# Altium footprint library Package_DIP.PcbLib: 281 footprints (part 10 of 18)
Each footprint in its own frame and in the unit in brackets; x right, y up, seen from the top. Pads: shape width x height; smd on the part's side, far side on the other; paste and mask are expansions set on the pad; w line width, h text height; cw(c..) or ccw(c..) is an arc to the next point about the centre after c.
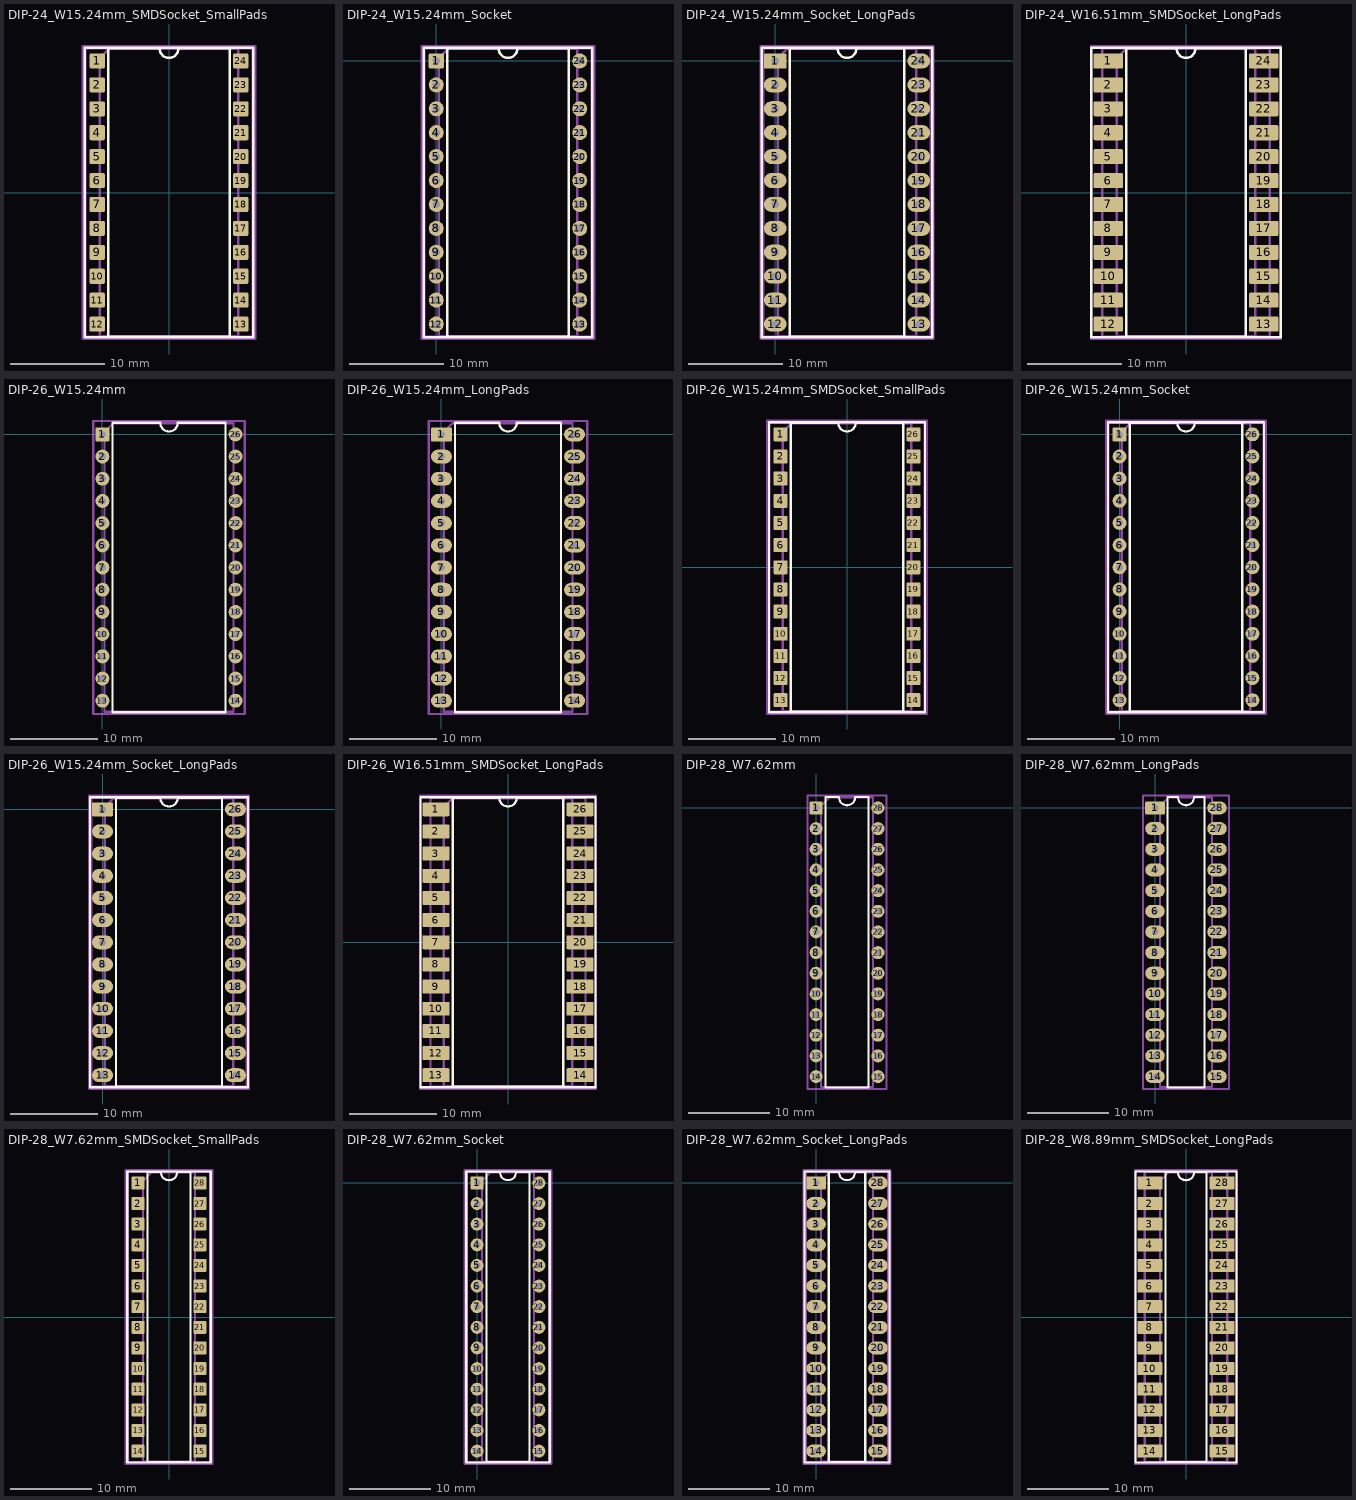
[diagram p9: the footprints below, top view; thin cyan lines are the x and y axes]

## DIP-24_W15.24mm_SMDSocket_SmallPads [mm]
pads (24):
  rrect16% 1.6x1.6 smd: 1(-7.62,13.97) 2(-7.62,11.43) 3(-7.62,8.89) 4(-7.62,6.35) 5(-7.62,3.81) 6(-7.62,1.27) 7(-7.62,-1.27) 8(-7.62,-3.81) 9(-7.62,-6.35) 10(-7.62,-8.89) 11(-7.62,-11.43) 12(-7.62,-13.97) 13(7.62,-13.97) 14(7.62,-11.43) 15(7.62,-8.89) 16(7.62,-6.35) 17(7.62,-3.81) 18(7.62,-1.27) 19(7.62,1.27) 20(7.62,3.81) 21(7.62,6.35) 22(7.62,8.89) 23(7.62,11.43) 24(7.62,13.97)
F.SilkS:
  lines w0.254: -8.95,-15.36 8.95,-15.36 8.95,15.36 -8.95,15.36 -8.95,-15.36 ; -6.46,-15.3 6.46,-15.3 6.46,15.3 1,15.3 cw(c0,15.3) -1,15.3 -6.46,15.3 -6.46,-15.3
Top Assembly:
  lines w0.254: -8.89,-15.3 8.89,-15.3 8.89,15.3 -8.89,15.3 -8.89,-15.3 ; -7.365,-15.24 7.365,-15.24 7.365,15.24 -6.365,15.24 -7.365,14.24 -7.365,-15.24
  text "'.Designator'" at 0.84,-4.047 h1
Top Courtyard:
  lines w0.254: -9.14,-15.55 9.14,-15.55 9.14,15.55 -9.14,15.55 -9.14,-15.55
Top Designator:
  text ".Designator" at -7.618,-0.508 h1.52

## DIP-24_W15.24mm_Socket [mm]
pads (24):
  rrect16% 1.6x1.6 hole 0.8: 1(0,0)
  round 1.6 hole 0.8: 2(0,-2.54) 3(0,-5.08) 4(0,-7.62) 5(0,-10.16) 6(0,-12.7) 7(0,-15.24) 8(0,-17.78) 9(0,-20.32) 10(0,-22.86) 11(0,-25.4) 12(0,-27.94) 13(15.24,-27.94) 14(15.24,-25.4) 15(15.24,-22.86) 16(15.24,-20.32) 17(15.24,-17.78) 18(15.24,-15.24) 19(15.24,-12.7) 20(15.24,-10.16) 21(15.24,-7.62) 22(15.24,-5.08) 23(15.24,-2.54) 24(15.24,0)
F.SilkS:
  lines w0.254: -1.33,-29.33 16.57,-29.33 16.57,1.39 -1.33,1.39 -1.33,-29.33 ; 1.16,-29.27 14.08,-29.27 14.08,1.33 8.62,1.33 cw(c7.62,1.33) 6.62,1.33 1.16,1.33 1.16,-29.27
Top Assembly:
  lines w0.254: -1.27,-29.27 16.51,-29.27 16.51,1.33 -1.27,1.33 -1.27,-29.27 ; 0.255,-29.21 14.985,-29.21 14.985,1.27 1.255,1.27 0.255,0.27 0.255,-29.21
  text "'.Designator'" at 8.46,-18.017 h1
Top Courtyard:
  lines w0.254: -1.53,-29.53 16.77,-29.53 16.77,1.58 -1.53,1.58 -1.53,-29.53
Top Designator:
  text ".Designator" at 0.002,-14.483 h1.52

## DIP-24_W15.24mm_Socket_LongPads [mm]
pads (24):
  rrect16% 2.4x1.6 hole 0.8: 1(0,0)
  rrect100% 2.4x1.6 hole 0.8: 2(0,-2.54) 3(0,-5.08) 4(0,-7.62) 5(0,-10.16) 6(0,-12.7) 7(0,-15.24) 8(0,-17.78) 9(0,-20.32) 10(0,-22.86) 11(0,-25.4) 12(0,-27.94) 13(15.24,-27.94) 14(15.24,-25.4) 15(15.24,-22.86) 16(15.24,-20.32) 17(15.24,-17.78) 18(15.24,-15.24) 19(15.24,-12.7) 20(15.24,-10.16) 21(15.24,-7.62) 22(15.24,-5.08) 23(15.24,-2.54) 24(15.24,0)
F.SilkS:
  lines w0.254: -1.44,-29.33 16.68,-29.33 16.68,1.39 -1.44,1.39 -1.44,-29.33 ; 1.56,-29.27 13.68,-29.27 13.68,1.33 8.62,1.33 cw(c7.62,1.33) 6.62,1.33 1.56,1.33 1.56,-29.27
Top Assembly:
  lines w0.254: -1.27,-29.27 16.51,-29.27 16.51,1.33 -1.27,1.33 -1.27,-29.27 ; 0.255,-29.21 14.985,-29.21 14.985,1.27 1.255,1.27 0.255,0.27 0.255,-29.21
  text "'.Designator'" at 8.46,-18.017 h1
Top Courtyard:
  lines w0.254: -1.53,-29.53 16.77,-29.53 16.77,1.58 -1.53,1.58 -1.53,-29.53
Top Designator:
  text ".Designator" at 0.002,-14.483 h1.52

## DIP-24_W16.51mm_SMDSocket_LongPads [mm]
pads (24):
  rrect16% 3.1x1.6 smd: 1(-8.255,13.97) 2(-8.255,11.43) 3(-8.255,8.89) 4(-8.255,6.35) 5(-8.255,3.81) 6(-8.255,1.27) 7(-8.255,-1.27) 8(-8.255,-3.81) 9(-8.255,-6.35) 10(-8.255,-8.89) 11(-8.255,-11.43) 12(-8.255,-13.97) 13(8.255,-13.97) 14(8.255,-11.43) 15(8.255,-8.89) 16(8.255,-6.35) 17(8.255,-3.81) 18(8.255,-1.27) 19(8.255,1.27) 20(8.255,3.81) 21(8.255,6.35) 22(8.255,8.89) 23(8.255,11.43) 24(8.255,13.97)
F.SilkS:
  lines w0.254: -10.045,-15.36 10.045,-15.36 10.045,15.36 -10.045,15.36 -10.045,-15.36 ; -6.345,-15.3 6.345,-15.3 6.345,15.3 1,15.3 cw(c0,15.3) -1,15.3 -6.345,15.3 -6.345,-15.3
Top Assembly:
  lines w0.254: -8.89,-15.3 8.89,-15.3 8.89,15.3 -8.89,15.3 -8.89,-15.3 ; -7.365,-15.24 7.365,-15.24 7.365,15.24 -6.365,15.24 -7.365,14.24 -7.365,-15.24
  text "'.Designator'" at 0.84,-4.047 h1
Top Courtyard:
  lines w0.254: -10.06,-15.55 10.06,-15.55 10.06,15.55 -10.06,15.55 -10.06,-15.55
Top Designator:
  text ".Designator" at -7.618,-0.508 h1.52

## DIP-26_W15.24mm [mm]
pads (26):
  rrect16% 1.6x1.6 hole 0.8: 1(0,0)
  round 1.6 hole 0.8: 2(0,-2.54) 3(0,-5.08) 4(0,-7.62) 5(0,-10.16) 6(0,-12.7) 7(0,-15.24) 8(0,-17.78) 9(0,-20.32) 10(0,-22.86) 11(0,-25.4) 12(0,-27.94) 13(0,-30.48) 14(15.24,-30.48) 15(15.24,-27.94) 16(15.24,-25.4) 17(15.24,-22.86) 18(15.24,-20.32) 19(15.24,-17.78) 20(15.24,-15.24) 21(15.24,-12.7) 22(15.24,-10.16) 23(15.24,-7.62) 24(15.24,-5.08) 25(15.24,-2.54) 26(15.24,0)
F.SilkS:
  lines w0.254: 1.16,-31.81 14.08,-31.81 14.08,1.33 8.62,1.33 cw(c7.62,1.33) 6.62,1.33 1.16,1.33 1.16,-31.81
Top Assembly:
  lines w0.254: 0.255,-31.75 14.985,-31.75 14.985,1.27 1.255,1.27 0.255,0.27 0.255,-31.75
  text "'.Designator'" at 8.46,-19.287 h1
Top Courtyard:
  lines w0.254: -1.05,-32 16.29,-32 16.29,1.53 -1.05,1.53 -1.05,-32
Top Designator:
  text ".Designator" at 0.002,-15.743 h1.52

## DIP-26_W15.24mm_LongPads [mm]
pads (26):
  rrect16% 2.4x1.6 hole 0.8: 1(0,0)
  rrect100% 2.4x1.6 hole 0.8: 2(0,-2.54) 3(0,-5.08) 4(0,-7.62) 5(0,-10.16) 6(0,-12.7) 7(0,-15.24) 8(0,-17.78) 9(0,-20.32) 10(0,-22.86) 11(0,-25.4) 12(0,-27.94) 13(0,-30.48) 14(15.24,-30.48) 15(15.24,-27.94) 16(15.24,-25.4) 17(15.24,-22.86) 18(15.24,-20.32) 19(15.24,-17.78) 20(15.24,-15.24) 21(15.24,-12.7) 22(15.24,-10.16) 23(15.24,-7.62) 24(15.24,-5.08) 25(15.24,-2.54) 26(15.24,0)
F.SilkS:
  lines w0.254: 1.56,-31.81 13.68,-31.81 13.68,1.33 8.62,1.33 cw(c7.62,1.33) 6.62,1.33 1.56,1.33 1.56,-31.81
Top Assembly:
  lines w0.254: 0.255,-31.75 14.985,-31.75 14.985,1.27 1.255,1.27 0.255,0.27 0.255,-31.75
  text "'.Designator'" at 8.46,-19.287 h1
Top Courtyard:
  lines w0.254: -1.46,-32 16.69,-32 16.69,1.53 -1.46,1.53 -1.46,-32
Top Designator:
  text ".Designator" at -0.003,-15.743 h1.52

## DIP-26_W15.24mm_SMDSocket_SmallPads [mm]
pads (26):
  rrect16% 1.6x1.6 smd: 1(-7.62,15.24) 2(-7.62,12.7) 3(-7.62,10.16) 4(-7.62,7.62) 5(-7.62,5.08) 6(-7.62,2.54) 7(-7.62,0) 8(-7.62,-2.54) 9(-7.62,-5.08) 10(-7.62,-7.62) 11(-7.62,-10.16) 12(-7.62,-12.7) 13(-7.62,-15.24) 14(7.62,-15.24) 15(7.62,-12.7) 16(7.62,-10.16) 17(7.62,-7.62) 18(7.62,-5.08) 19(7.62,-2.54) 20(7.62,0) 21(7.62,2.54) 22(7.62,5.08) 23(7.62,7.62) 24(7.62,10.16) 25(7.62,12.7) 26(7.62,15.24)
F.SilkS:
  lines w0.254: -8.95,-16.63 8.95,-16.63 8.95,16.63 -8.95,16.63 -8.95,-16.63 ; -6.46,-16.57 6.46,-16.57 6.46,16.57 1,16.57 cw(c0,16.57) -1,16.57 -6.46,16.57 -6.46,-16.57
Top Assembly:
  lines w0.254: -8.89,-16.57 8.89,-16.57 8.89,16.57 -8.89,16.57 -8.89,-16.57 ; -7.365,-16.51 7.365,-16.51 7.365,16.51 -6.365,16.51 -7.365,15.51 -7.365,-16.51
  text "'.Designator'" at 0.84,-4.047 h1
Top Courtyard:
  lines w0.254: -9.14,-16.82 9.14,-16.82 9.14,16.82 -9.14,16.82 -9.14,-16.82
Top Designator:
  text ".Designator" at -7.618,-0.508 h1.52

## DIP-26_W15.24mm_Socket [mm]
pads (26):
  rrect16% 1.6x1.6 hole 0.8: 1(0,0)
  round 1.6 hole 0.8: 2(0,-2.54) 3(0,-5.08) 4(0,-7.62) 5(0,-10.16) 6(0,-12.7) 7(0,-15.24) 8(0,-17.78) 9(0,-20.32) 10(0,-22.86) 11(0,-25.4) 12(0,-27.94) 13(0,-30.48) 14(15.24,-30.48) 15(15.24,-27.94) 16(15.24,-25.4) 17(15.24,-22.86) 18(15.24,-20.32) 19(15.24,-17.78) 20(15.24,-15.24) 21(15.24,-12.7) 22(15.24,-10.16) 23(15.24,-7.62) 24(15.24,-5.08) 25(15.24,-2.54) 26(15.24,0)
F.SilkS:
  lines w0.254: -1.33,-31.87 16.57,-31.87 16.57,1.39 -1.33,1.39 -1.33,-31.87 ; 1.16,-31.81 14.08,-31.81 14.08,1.33 8.62,1.33 cw(c7.62,1.33) 6.62,1.33 1.16,1.33 1.16,-31.81
Top Assembly:
  lines w0.254: -1.27,-31.81 16.51,-31.81 16.51,1.33 -1.27,1.33 -1.27,-31.81 ; 0.255,-31.75 14.985,-31.75 14.985,1.27 1.255,1.27 0.255,0.27 0.255,-31.75
  text "'.Designator'" at 8.46,-19.287 h1
Top Courtyard:
  lines w0.254: -1.53,-32.06 16.77,-32.06 16.77,1.58 -1.53,1.58 -1.53,-32.06
Top Designator:
  text ".Designator" at 0.002,-15.748 h1.52

## DIP-26_W15.24mm_Socket_LongPads [mm]
pads (26):
  rrect16% 2.4x1.6 hole 0.8: 1(0,0)
  rrect100% 2.4x1.6 hole 0.8: 2(0,-2.54) 3(0,-5.08) 4(0,-7.62) 5(0,-10.16) 6(0,-12.7) 7(0,-15.24) 8(0,-17.78) 9(0,-20.32) 10(0,-22.86) 11(0,-25.4) 12(0,-27.94) 13(0,-30.48) 14(15.24,-30.48) 15(15.24,-27.94) 16(15.24,-25.4) 17(15.24,-22.86) 18(15.24,-20.32) 19(15.24,-17.78) 20(15.24,-15.24) 21(15.24,-12.7) 22(15.24,-10.16) 23(15.24,-7.62) 24(15.24,-5.08) 25(15.24,-2.54) 26(15.24,0)
F.SilkS:
  lines w0.254: -1.44,-31.87 16.68,-31.87 16.68,1.39 -1.44,1.39 -1.44,-31.87 ; 1.56,-31.81 13.68,-31.81 13.68,1.33 8.62,1.33 cw(c7.62,1.33) 6.62,1.33 1.56,1.33 1.56,-31.81
Top Assembly:
  lines w0.254: -1.27,-31.81 16.51,-31.81 16.51,1.33 -1.27,1.33 -1.27,-31.81 ; 0.255,-31.75 14.985,-31.75 14.985,1.27 1.255,1.27 0.255,0.27 0.255,-31.75
  text "'.Designator'" at 8.46,-19.287 h1
Top Courtyard:
  lines w0.254: -1.53,-32.06 16.77,-32.06 16.77,1.58 -1.53,1.58 -1.53,-32.06
Top Designator:
  text ".Designator" at 0.002,-15.748 h1.52

## DIP-26_W16.51mm_SMDSocket_LongPads [mm]
pads (26):
  rrect16% 3.1x1.6 smd: 1(-8.255,15.24) 2(-8.255,12.7) 3(-8.255,10.16) 4(-8.255,7.62) 5(-8.255,5.08) 6(-8.255,2.54) 7(-8.255,0) 8(-8.255,-2.54) 9(-8.255,-5.08) 10(-8.255,-7.62) 11(-8.255,-10.16) 12(-8.255,-12.7) 13(-8.255,-15.24) 14(8.255,-15.24) 15(8.255,-12.7) 16(8.255,-10.16) 17(8.255,-7.62) 18(8.255,-5.08) 19(8.255,-2.54) 20(8.255,0) 21(8.255,2.54) 22(8.255,5.08) 23(8.255,7.62) 24(8.255,10.16) 25(8.255,12.7) 26(8.255,15.24)
F.SilkS:
  lines w0.254: -10.045,-16.63 10.045,-16.63 10.045,16.63 -10.045,16.63 -10.045,-16.63 ; -6.345,-16.57 6.345,-16.57 6.345,16.57 1,16.57 cw(c0,16.57) -1,16.57 -6.345,16.57 -6.345,-16.57
Top Assembly:
  lines w0.254: -8.89,-16.57 8.89,-16.57 8.89,16.57 -8.89,16.57 -8.89,-16.57 ; -7.365,-16.51 7.365,-16.51 7.365,16.51 -6.365,16.51 -7.365,15.51 -7.365,-16.51
  text "'.Designator'" at 0.84,-4.047 h1
Top Courtyard:
  lines w0.254: -10.06,-16.82 10.06,-16.82 10.06,16.82 -10.06,16.82 -10.06,-16.82
Top Designator:
  text ".Designator" at -7.618,-0.508 h1.52

## DIP-28_W7.62mm [mm]
pads (28):
  rrect16% 1.6x1.6 hole 0.8: 1(0,0)
  round 1.6 hole 0.8: 2(0,-2.54) 3(0,-5.08) 4(0,-7.62) 5(0,-10.16) 6(0,-12.7) 7(0,-15.24) 8(0,-17.78) 9(0,-20.32) 10(0,-22.86) 11(0,-25.4) 12(0,-27.94) 13(0,-30.48) 14(0,-33.02) 15(7.62,-33.02) 16(7.62,-30.48) 17(7.62,-27.94) 18(7.62,-25.4) 19(7.62,-22.86) 20(7.62,-20.32) 21(7.62,-17.78) 22(7.62,-15.24) 23(7.62,-12.7) 24(7.62,-10.16) 25(7.62,-7.62) 26(7.62,-5.08) 27(7.62,-2.54) 28(7.62,0)
F.SilkS:
  lines w0.254: 1.16,-34.35 6.46,-34.35 6.46,1.33 4.81,1.33 cw(c3.81,1.33) 2.81,1.33 1.16,1.33 1.16,-34.35
Top Assembly:
  lines w0.254: 0.635,-34.29 6.985,-34.29 6.985,1.27 1.635,1.27 0.635,0.27 0.635,-34.29
  text "'.Designator'" at 4.65,-20.557 h1
Top Courtyard:
  lines w0.254: -1.06,-34.55 8.67,-34.55 8.67,1.53 -1.06,1.53 -1.06,-34.55
Top Designator:
  text ".Designator" at -3.813,-17.018 h1.52

## DIP-28_W7.62mm_LongPads [mm]
pads (28):
  rrect16% 2.4x1.6 hole 0.8: 1(0,0)
  rrect100% 2.4x1.6 hole 0.8: 2(0,-2.54) 3(0,-5.08) 4(0,-7.62) 5(0,-10.16) 6(0,-12.7) 7(0,-15.24) 8(0,-17.78) 9(0,-20.32) 10(0,-22.86) 11(0,-25.4) 12(0,-27.94) 13(0,-30.48) 14(0,-33.02) 15(7.62,-33.02) 16(7.62,-30.48) 17(7.62,-27.94) 18(7.62,-25.4) 19(7.62,-22.86) 20(7.62,-20.32) 21(7.62,-17.78) 22(7.62,-15.24) 23(7.62,-12.7) 24(7.62,-10.16) 25(7.62,-7.62) 26(7.62,-5.08) 27(7.62,-2.54) 28(7.62,0)
F.SilkS:
  lines w0.254: 1.56,-34.35 6.06,-34.35 6.06,1.33 4.81,1.33 cw(c3.81,1.33) 2.81,1.33 1.56,1.33 1.56,-34.35
Top Assembly:
  lines w0.254: 0.635,-34.29 6.985,-34.29 6.985,1.27 1.635,1.27 0.635,0.27 0.635,-34.29
  text "'.Designator'" at 4.65,-20.557 h1
Top Courtyard:
  lines w0.254: -1.45,-34.55 9.07,-34.55 9.07,1.53 -1.45,1.53 -1.45,-34.55
Top Designator:
  text ".Designator" at -3.808,-17.018 h1.52

## DIP-28_W7.62mm_SMDSocket_SmallPads [mm]
pads (28):
  rrect16% 1.6x1.6 smd: 1(-3.81,16.51) 2(-3.81,13.97) 3(-3.81,11.43) 4(-3.81,8.89) 5(-3.81,6.35) 6(-3.81,3.81) 7(-3.81,1.27) 8(-3.81,-1.27) 9(-3.81,-3.81) 10(-3.81,-6.35) 11(-3.81,-8.89) 12(-3.81,-11.43) 13(-3.81,-13.97) 14(-3.81,-16.51) 15(3.81,-16.51) 16(3.81,-13.97) 17(3.81,-11.43) 18(3.81,-8.89) 19(3.81,-6.35) 20(3.81,-3.81) 21(3.81,-1.27) 22(3.81,1.27) 23(3.81,3.81) 24(3.81,6.35) 25(3.81,8.89) 26(3.81,11.43) 27(3.81,13.97) 28(3.81,16.51)
F.SilkS:
  lines w0.254: -5.14,-17.9 5.14,-17.9 5.14,17.9 -5.14,17.9 -5.14,-17.9 ; -2.65,-17.84 2.65,-17.84 2.65,17.84 1,17.84 cw(c0,17.84) -1,17.84 -2.65,17.84 -2.65,-17.84
Top Assembly:
  lines w0.254: -5.08,-17.84 5.08,-17.84 5.08,17.84 -5.08,17.84 -5.08,-17.84 ; -3.175,-17.78 3.175,-17.78 3.175,17.78 -2.175,17.78 -3.175,16.78 -3.175,-17.78
  text "'.Designator'" at 0.84,-4.047 h1
Top Courtyard:
  lines w0.254: -5.33,-18.1 5.33,-18.1 5.33,18.1 -5.33,18.1 -5.33,-18.1
Top Designator:
  text ".Designator" at -7.618,-0.508 h1.52

## DIP-28_W7.62mm_Socket [mm]
pads (28):
  rrect16% 1.6x1.6 hole 0.8: 1(0,0)
  round 1.6 hole 0.8: 2(0,-2.54) 3(0,-5.08) 4(0,-7.62) 5(0,-10.16) 6(0,-12.7) 7(0,-15.24) 8(0,-17.78) 9(0,-20.32) 10(0,-22.86) 11(0,-25.4) 12(0,-27.94) 13(0,-30.48) 14(0,-33.02) 15(7.62,-33.02) 16(7.62,-30.48) 17(7.62,-27.94) 18(7.62,-25.4) 19(7.62,-22.86) 20(7.62,-20.32) 21(7.62,-17.78) 22(7.62,-15.24) 23(7.62,-12.7) 24(7.62,-10.16) 25(7.62,-7.62) 26(7.62,-5.08) 27(7.62,-2.54) 28(7.62,0)
F.SilkS:
  lines w0.254: -1.33,-34.41 8.95,-34.41 8.95,1.39 -1.33,1.39 -1.33,-34.41 ; 1.16,-34.35 6.46,-34.35 6.46,1.33 4.81,1.33 cw(c3.81,1.33) 2.81,1.33 1.16,1.33 1.16,-34.35
Top Assembly:
  lines w0.254: -1.27,-34.35 8.89,-34.35 8.89,1.33 -1.27,1.33 -1.27,-34.35 ; 0.635,-34.29 6.985,-34.29 6.985,1.27 1.635,1.27 0.635,0.27 0.635,-34.29
  text "'.Designator'" at 4.65,-20.557 h1
Top Courtyard:
  lines w0.254: -1.52,-34.61 9.14,-34.61 9.14,1.59 -1.52,1.59 -1.52,-34.61
Top Designator:
  text ".Designator" at -3.808,-17.018 h1.52

## DIP-28_W7.62mm_Socket_LongPads [mm]
pads (28):
  rrect16% 2.4x1.6 hole 0.8: 1(0,0)
  rrect100% 2.4x1.6 hole 0.8: 2(0,-2.54) 3(0,-5.08) 4(0,-7.62) 5(0,-10.16) 6(0,-12.7) 7(0,-15.24) 8(0,-17.78) 9(0,-20.32) 10(0,-22.86) 11(0,-25.4) 12(0,-27.94) 13(0,-30.48) 14(0,-33.02) 15(7.62,-33.02) 16(7.62,-30.48) 17(7.62,-27.94) 18(7.62,-25.4) 19(7.62,-22.86) 20(7.62,-20.32) 21(7.62,-17.78) 22(7.62,-15.24) 23(7.62,-12.7) 24(7.62,-10.16) 25(7.62,-7.62) 26(7.62,-5.08) 27(7.62,-2.54) 28(7.62,0)
F.SilkS:
  lines w0.254: -1.44,-34.41 9.06,-34.41 9.06,1.39 -1.44,1.39 -1.44,-34.41 ; 1.56,-34.35 6.06,-34.35 6.06,1.33 4.81,1.33 cw(c3.81,1.33) 2.81,1.33 1.56,1.33 1.56,-34.35
Top Assembly:
  lines w0.254: -1.27,-34.35 8.89,-34.35 8.89,1.33 -1.27,1.33 -1.27,-34.35 ; 0.635,-34.29 6.985,-34.29 6.985,1.27 1.635,1.27 0.635,0.27 0.635,-34.29
  text "'.Designator'" at 4.65,-20.557 h1
Top Courtyard:
  lines w0.254: -1.52,-34.61 9.14,-34.61 9.14,1.59 -1.52,1.59 -1.52,-34.61
Top Designator:
  text ".Designator" at -3.808,-17.018 h1.52

## DIP-28_W8.89mm_SMDSocket_LongPads [mm]
pads (28):
  rrect16% 3.1x1.6 smd: 1(-4.445,16.51) 2(-4.445,13.97) 3(-4.445,11.43) 4(-4.445,8.89) 5(-4.445,6.35) 6(-4.445,3.81) 7(-4.445,1.27) 8(-4.445,-1.27) 9(-4.445,-3.81) 10(-4.445,-6.35) 11(-4.445,-8.89) 12(-4.445,-11.43) 13(-4.445,-13.97) 14(-4.445,-16.51) 15(4.445,-16.51) 16(4.445,-13.97) 17(4.445,-11.43) 18(4.445,-8.89) 19(4.445,-6.35) 20(4.445,-3.81) 21(4.445,-1.27) 22(4.445,1.27) 23(4.445,3.81) 24(4.445,6.35) 25(4.445,8.89) 26(4.445,11.43) 27(4.445,13.97) 28(4.445,16.51)
F.SilkS:
  lines w0.254: -6.235,-17.9 6.235,-17.9 6.235,17.9 -6.235,17.9 -6.235,-17.9 ; -2.535,-17.84 2.535,-17.84 2.535,17.84 1,17.84 cw(c0,17.84) -1,17.84 -2.535,17.84 -2.535,-17.84
Top Assembly:
  lines w0.254: -5.08,-17.84 5.08,-17.84 5.08,17.84 -5.08,17.84 -5.08,-17.84 ; -3.175,-17.78 3.175,-17.78 3.175,17.78 -2.175,17.78 -3.175,16.78 -3.175,-17.78
  text "'.Designator'" at 0.84,-4.047 h1
Top Courtyard:
  lines w0.254: -6.25,-18.1 6.25,-18.1 6.25,18.1 -6.25,18.1 -6.25,-18.1
Top Designator:
  text ".Designator" at -7.618,-0.508 h1.52